# Altium footprint library basic.PcbLib: 38 footprints (part 1 of 3)
Each footprint in its own frame and in the unit in brackets; x right, y up, seen from the top. Pads: shape width x height; smd on the part's side, far side on the other; paste and mask are expansions set on the pad; w line width, h text height; cw(c..) or ccw(c..) is an arc to the next point about the centre after c.
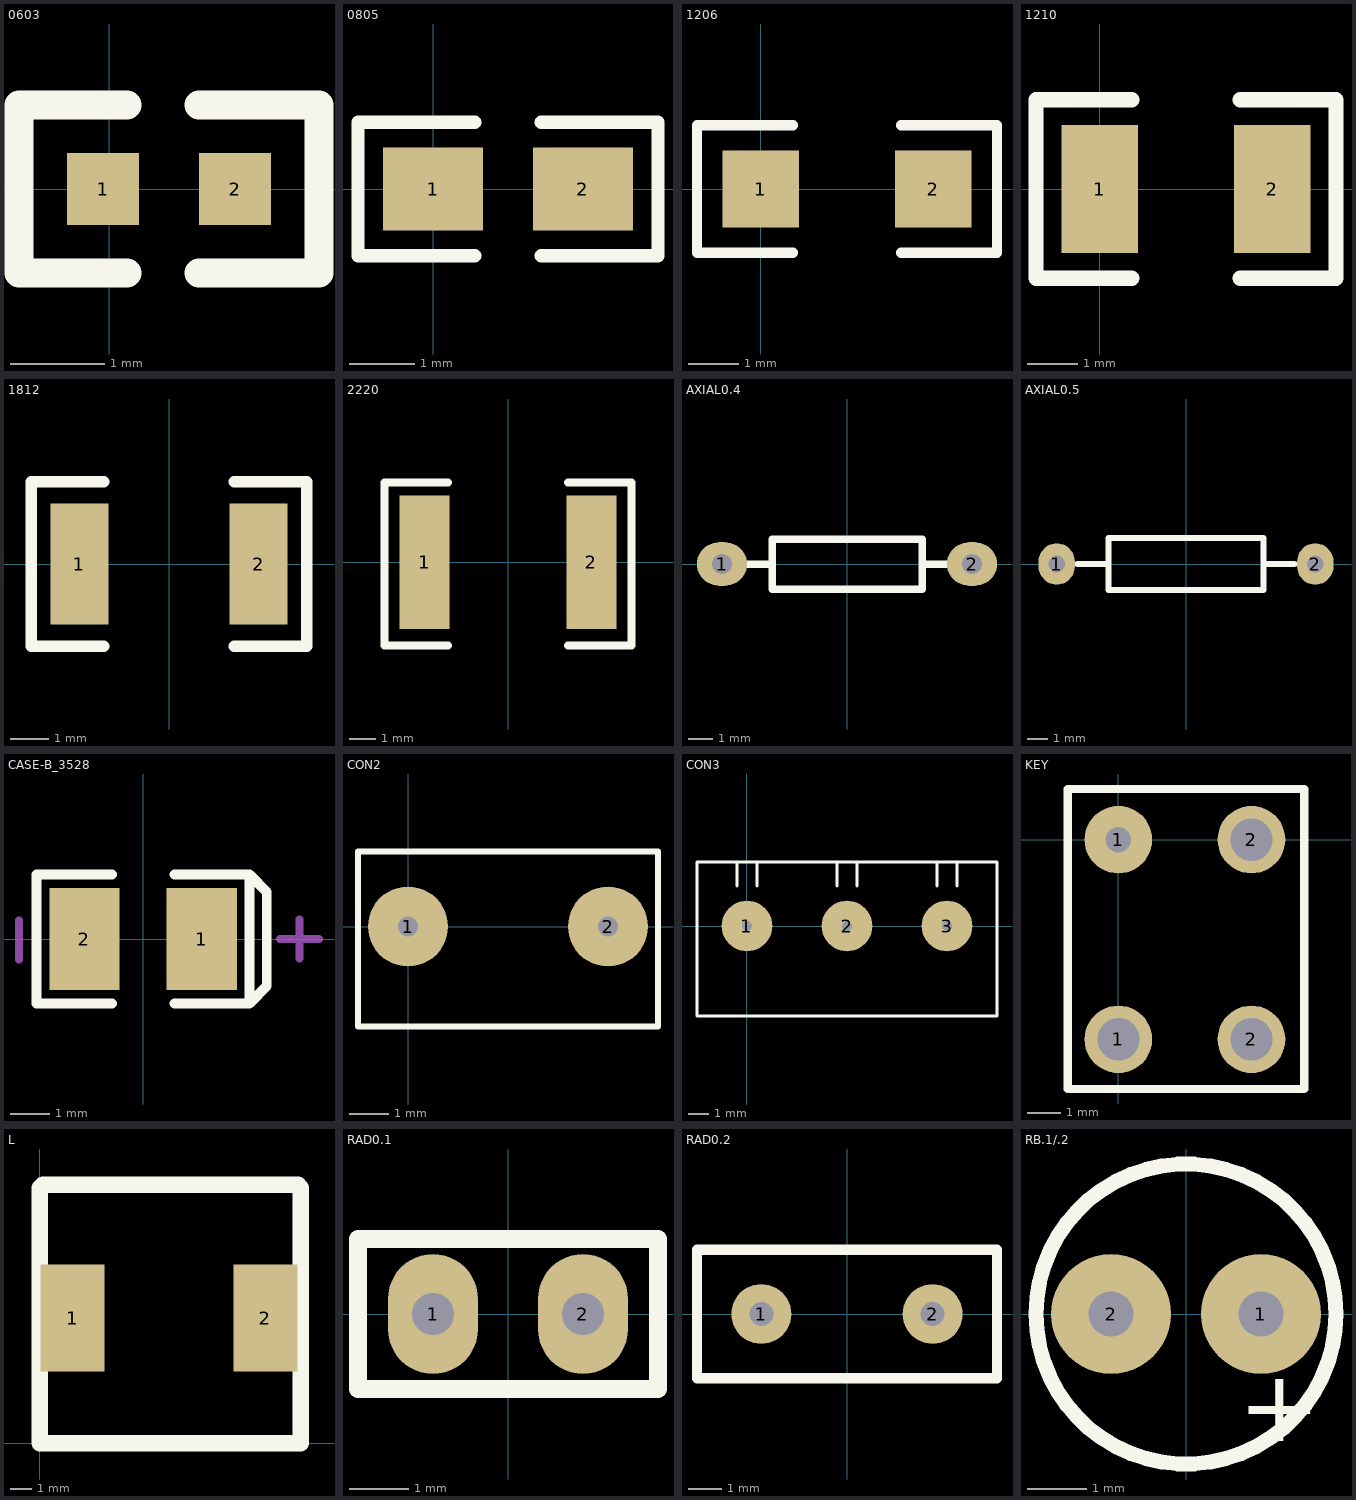
[diagram p0: the footprints below, top view; thin cyan lines are the x and y axes]

## 0603 [mil]
pads (2):
  rect 30x30 smd: 1(-2.5,0) 2(52.5,0)
Top Overlay:
  lines w12: 7.5,-35 -37.5,-35 -37.5,35 7.5,35 ; 37.5,-35 87.5,-35 87.5,35 37.5,35

## 0805 [mil]
pads (2):
  rect 60x50 smd: 1(0,0) 2(90,0)
Top Overlay:
  lines w8: 25,-40 -45,-40 -45,40 25,40 ; 65,-40 135,-40 135,40 65,40

## 1206 [mil]
pads (2):
  rect 60x60 smd: 1(0,0) 2(135,0)
Top Overlay:
  lines w8: 25,-50 -50,-50 -50,50 25,50 ; 110,-50 185,-50 185,50 110,50

## 1210 [mil]
pads (2):
  rect 60x100 smd: 1(0,0) 2(135,0)
Top Overlay:
  lines w12: 25,-70 -50,-70 -50,70 25,70 ; 110,-70 185,-70 185,70 110,70

## 1812 [mil]
pads (2):
  rect 60x125 smd: 1(-92.5,0) 2(92.5,0)
Top Overlay:
  lines w12: -67.5,-85 -142.5,-85 -142.5,85 -67.5,85 ; 67.5,-85 142.5,-85 142.5,85 67.5,85

## 2220 [mil]
pads (2):
  rect 75x200 smd: 1(-125,0) 2(125,0)
Top Overlay:
  lines w12: -90,-125 -185,-125 -185,120 -90,120 ; 90,-125 185,-125 185,120 90,120

## AXIAL0.4 [mil]
pads (2):
  oval 80x70 hole 32: 1(-200,0) 2(200,0)
Top Overlay:
  lines w12: -160,0 -120,0 ; 120,0 160,0 ; -120,-40 120,-40 120,40 -120,40 -120,-40

## AXIAL0.5 [mil]
pads (2):
  oval 70x80 hole 32: 1(-250,0) 2(250,0)
Top Overlay:
  lines w12: -210,0 -150,0 ; 150,0 210,0 ; -150,-50 -150,50 150,50 150,-50 -150,-50

## CASE-B_3528 [mm]
pads (2):
  rect 1.8x2.6 smd: 1(1.5,0) 2(-1.5,0)
Top Overlay:
  lines w0.254: -0.8,-1.65 -2.727,-1.65 -2.727,1.65 -0.8,1.65 ; 0.8,-1.65 2.727,-1.65 ; 0.8,1.65 2.727,1.65 ; 2.727,-1.65 3.163,-1.2 3.163,1.2 2.727,1.65 ; 2.727,-1.65 2.727,1.65
Mechanical 15:
  lines w0.203: -3.175,-0.525 -3.175,0.475 ; 3.5,0 4.5,0 ; 4,-0.5 4,0.5
3D body "User Library-AVX_BCASE.STEP": height 2.03, standoff 0, extent -1.85,-1.465 1.85,1.465

## CON2 [mil] "5mm 二端子"
pads (2):
  round 80 hole 20: 1(0,0) 2(200,0)
Top Overlay:
  lines w6: -50,-100 250,-100 250,75 -50,75 -50,-100

## CON3 [mil] "5mm 三端子"
pads (3):
  round 100 hole 20: 1(0,0) 2(196.85,0) 3(393.7,0)
Top Overlay:
  lines w6: -19.68,78.74 -19.68,125.98 ; 19.69,78.74 19.69,125.98 ; 177.17,78.74 177.17,125.98 ; 216.54,78.74 216.54,125.98 ; 374.02,78.74 374.02,125.98 ; 413.39,78.74 413.39,125.98 ; -98.43,-177.17 492.13,-177.17 492.13,125.98 -98.43,125.98 -98.43,-177.17

## KEY [mil]
pads (4):
  round 80 hole 50: 1(0,-236.22) 2(157.48,-236.22) 2(157.48,0)
  round 80 hole 30: 1(0,0)
Top Overlay:
  lines w10: -60,-295 220,-295 220,60 -60,60 -60,-295

## L [mil] "贴片功率电感12*12"
pads (2):
  rect 118.11x196.85 smd: 1(60,230) 2(415,230)
Top Overlay:
  lines w30: 0,0 0,470 5,475 475,475 480,470 480,0 0,0

## RAD0.1 [mil]
pads (2):
  oval 60x80 hole 28: 1(-50,0) 2(50,0)
Top Overlay:
  lines w12: -100,-50 100,-50 100,50 -100,50 -100,-50

## RAD0.2 [mil]
pads (2):
  round 70 hole 28: 1(-100,0) 2(100,0)
Top Overlay:
  lines w12: -175,-75 -175,75 175,75 175,-75 -175,-75

## RB.1/.2 [mil]
pads (2):
  round 80 hole 30: 1(50,0) 2(-50,0)
Top Overlay:
  circle w10: c0,0 r100
  text "+" at 35,-85 h48